# Altium footprint library AT25SL641_113.PcbLib: 1 footprints
Each footprint in its own frame and in the unit in brackets; x right, y up, seen from the top. Pads: shape width x height; smd on the part's side, far side on the other; paste and mask are expansions set on the pad; w line width, h text height; cw(c..) or ccw(c..) is an arc to the next point about the centre after c.
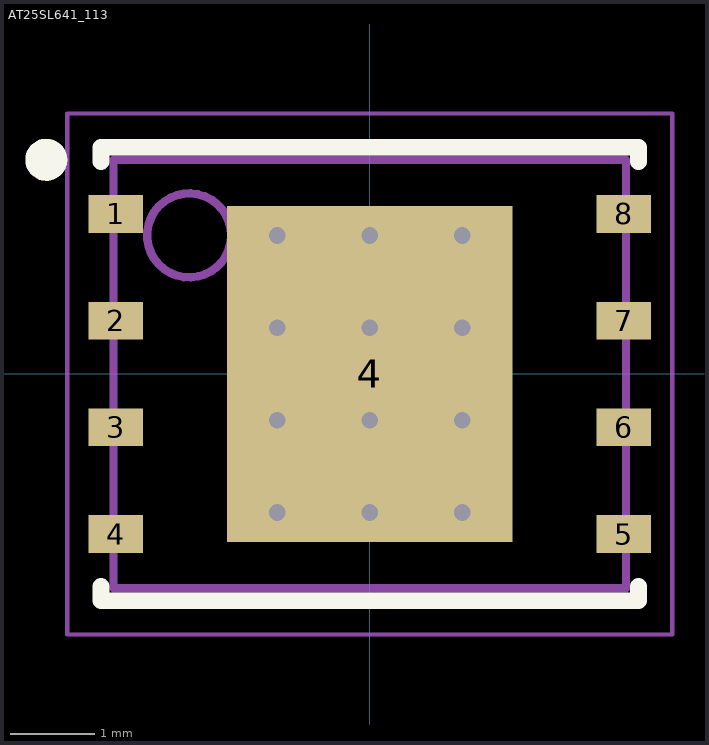
[diagram p0: the footprint, top view; thin cyan lines are the x and y axes]

## AT25SL641_113 [mm] "QFN, 8-Leads, Body 6.00x5.00mm, Pitch 1.27mm, Thermal Pad 3.40x4.00mm, IPC Medium Density"
height 0.6
pads (9):
  rect 0.65x0.45 smd: 1(-3.025,1.905) 2(-3.025,0.635) 3(-3.025,-0.635) 4(-3.025,-1.905) 5(3.025,-1.905) 6(3.025,-0.635) 7(3.025,0.635) 8(3.025,1.905)
  rect 3.4x4 smd: 4(0,0)
via -1.1,1.65 diameter 0.5 hole 0.2
via 0,1.65 diameter 0.5 hole 0.2
via 1.1,1.65 diameter 0.5 hole 0.2
via -1.1,0.55 diameter 0.5 hole 0.2
via 0,0.55 diameter 0.5 hole 0.2
via 1.1,0.55 diameter 0.5 hole 0.2
via -1.1,-0.55 diameter 0.5 hole 0.2
via 0,-0.55 diameter 0.5 hole 0.2
via 1.1,-0.55 diameter 0.5 hole 0.2
via -1.1,-1.65 diameter 0.5 hole 0.2
via 0,-1.65 diameter 0.5 hole 0.2
via 1.1,-1.65 diameter 0.5 hole 0.2
Top Overlay:
  circle w0.25: c-3.85,2.55 r0.125
  lines w0.2: -3.2,-2.53 -3.2,-2.7 0.01,-2.7 ; -3.2,2.53 -3.2,2.7 0.01,2.7 ; -0.01,-2.7 3.2,-2.7 3.2,-2.53 ; -0.01,2.7 3.2,2.7 3.2,2.53
Mechanical 13:
  circle w0.1: c-2.15,1.65 r0.5
  lines w0.1: -3.05,-2.55 -3.05,2.55 3.05,2.55 3.05,-2.55 -3.05,-2.55
Mechanical 15:
  lines w0.05: -3.6,-3.1 -3.6,3.1 3.6,3.1 3.6,-3.1 -3.6,-3.1
  lines w0.1: -0.5,0 0.5,0 ; 0,-0.5 0,0.5
3D body "AT25SL641_113.step": height 0.6, standoff 0, extent -3.051,-2.55 3.051,2.55